# EAGLE library part MB85RC1MTPNF-G-JNERE1 (library MB85RC1MTPNF-G-JNERE1)
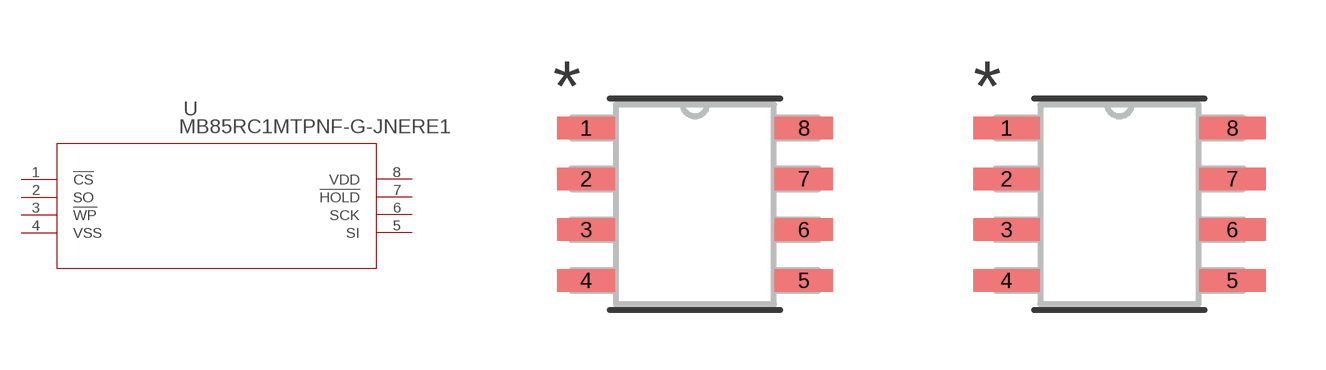
[diagram p0: symbol with the pads of SOIC8_SA_SST_MCH; footprints SOIC8_SA_SST_MCH, SOIC8_SA_SST_MCH-M]

Designator prefix U

## MB85RC1MTPNF-G-JNERE1 (COPYRIGHT: Copyright (C) 2022 Ultra Librarian. All rights reserved.; DIGI-KEY_PART_NUMBER_1: SST25VF010A-33-4I-SAE-TCT-ND; DIGI-KEY_PART_NUMBER_2: SST25VF010A-33-4I-SAE-TDKR-ND; DIGI-KEY_PART_NUMBER_3: SST25VF010A-33-4I-SAE-TTR-ND; MANUFACTURER_PART_NUMBER: SST25VF010A-33-4I-SAE-T; MFR_NAME: Microchip)  [SOIC8_SA_SST_MCH]
1  !CS  in
2  SO  out
3  !WP  in
4  VSS  pwr
5  SI  in
6  SCK  in
7  !HOLD  in
8  VDD  pwr

## MB85RC1MTPNF-G-JNERE1SOIC8_SA_SST_MCH-M (COPYRIGHT: Copyright (C) 2022 Ultra Librarian. All rights reserved.; DIGI-KEY_PART_NUMBER_1: SST25VF010A-33-4I-SAE-TCT-ND; DIGI-KEY_PART_NUMBER_2: SST25VF010A-33-4I-SAE-TDKR-ND; DIGI-KEY_PART_NUMBER_3: SST25VF010A-33-4I-SAE-TTR-ND; MANUFACTURER_PART_NUMBER: SST25VF010A-33-4I-SAE-T; MFR_NAME: Microchip)  [SOIC8_SA_SST_MCH-M]
Pads as for SOIC8_SA_SST_MCH

## MB85RC1MTPNF-G-JNERE1SOIC8_SA_SST_MCH-L (COPYRIGHT: Copyright (C) 2022 Ultra Librarian. All rights reserved.; DIGI-KEY_PART_NUMBER_1: SST25VF010A-33-4I-SAE-TCT-ND; DIGI-KEY_PART_NUMBER_2: SST25VF010A-33-4I-SAE-TDKR-ND; DIGI-KEY_PART_NUMBER_3: SST25VF010A-33-4I-SAE-TTR-ND; MANUFACTURER_PART_NUMBER: SST25VF010A-33-4I-SAE-T; MFR_NAME: Microchip)  [SOIC8_SA_SST_MCH-L]
Pads as for SOIC8_SA_SST_MCH

## Footprint SOIC8_SA_SST_MCH (pad centres in mm)
smd 1.46 x 0.559: 1 -2.724,1.905; 2 -2.724,0.635; 3 -2.724,-0.635; 4 -2.724,-1.905; 5 2.724,-1.905; 6 2.724,-0.635; 7 2.724,0.635; 8 2.724,1.905

## Footprint SOIC8_SA_SST_MCH-M (pad centres in mm)
smd 1.664 x 0.559: 1 -2.826,1.905; 2 -2.826,0.635; 3 -2.826,-0.635; 4 -2.826,-1.905; 5 2.826,-1.905; 6 2.826,-0.635; 7 2.826,0.635; 8 2.826,1.905

## Footprint SOIC8_SA_SST_MCH-L (pad centres in mm)
smd 1.257 x 0.508: 1 -2.623,1.905; 2 -2.623,0.635; 3 -2.623,-0.635; 4 -2.623,-1.905; 5 2.623,-1.905; 6 2.623,-0.635; 7 2.623,0.635; 8 2.623,1.905